# EAGLE library part TC2030-IDC (library REF-IN-BLE-NS 4-0)
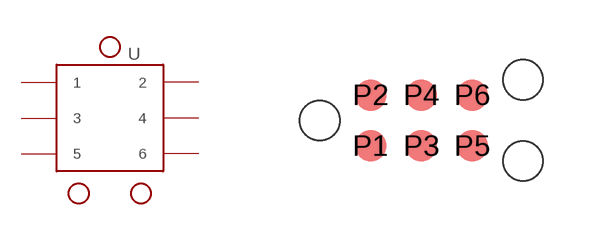
[diagram p2: symbol with the pads of TC2030-IDC; footprint TC2030-IDC]

Designator prefix -

## TC2030-IDC  [TC2030-IDC]
P1  1
P2  2
P3  3
P4  4
P5  5
P6  6

## Footprint TC2030-IDC (pad centres in mm)
smd 0.787 x 0.787: P1 -1.27,-0.635; P2 -1.27,0.635; P3 0,-0.635; P4 0,0.635; P5 1.27,-0.635; P6 1.27,0.635
hole 0.991 at -2.54,0
hole 0.991 at 2.54,1.016
hole 0.991 at 2.54,-1.016